# Altium footprint library DK TT.PcbLib: 23 footprints (part 1 of 2)
Each footprint in its own frame and in the unit in brackets; x right, y up, seen from the top. Pads: shape width x height; smd on the part's side, far side on the other; paste and mask are expansions set on the pad; w line width, h text height; cw(c..) or ccw(c..) is an arc to the next point about the centre after c.
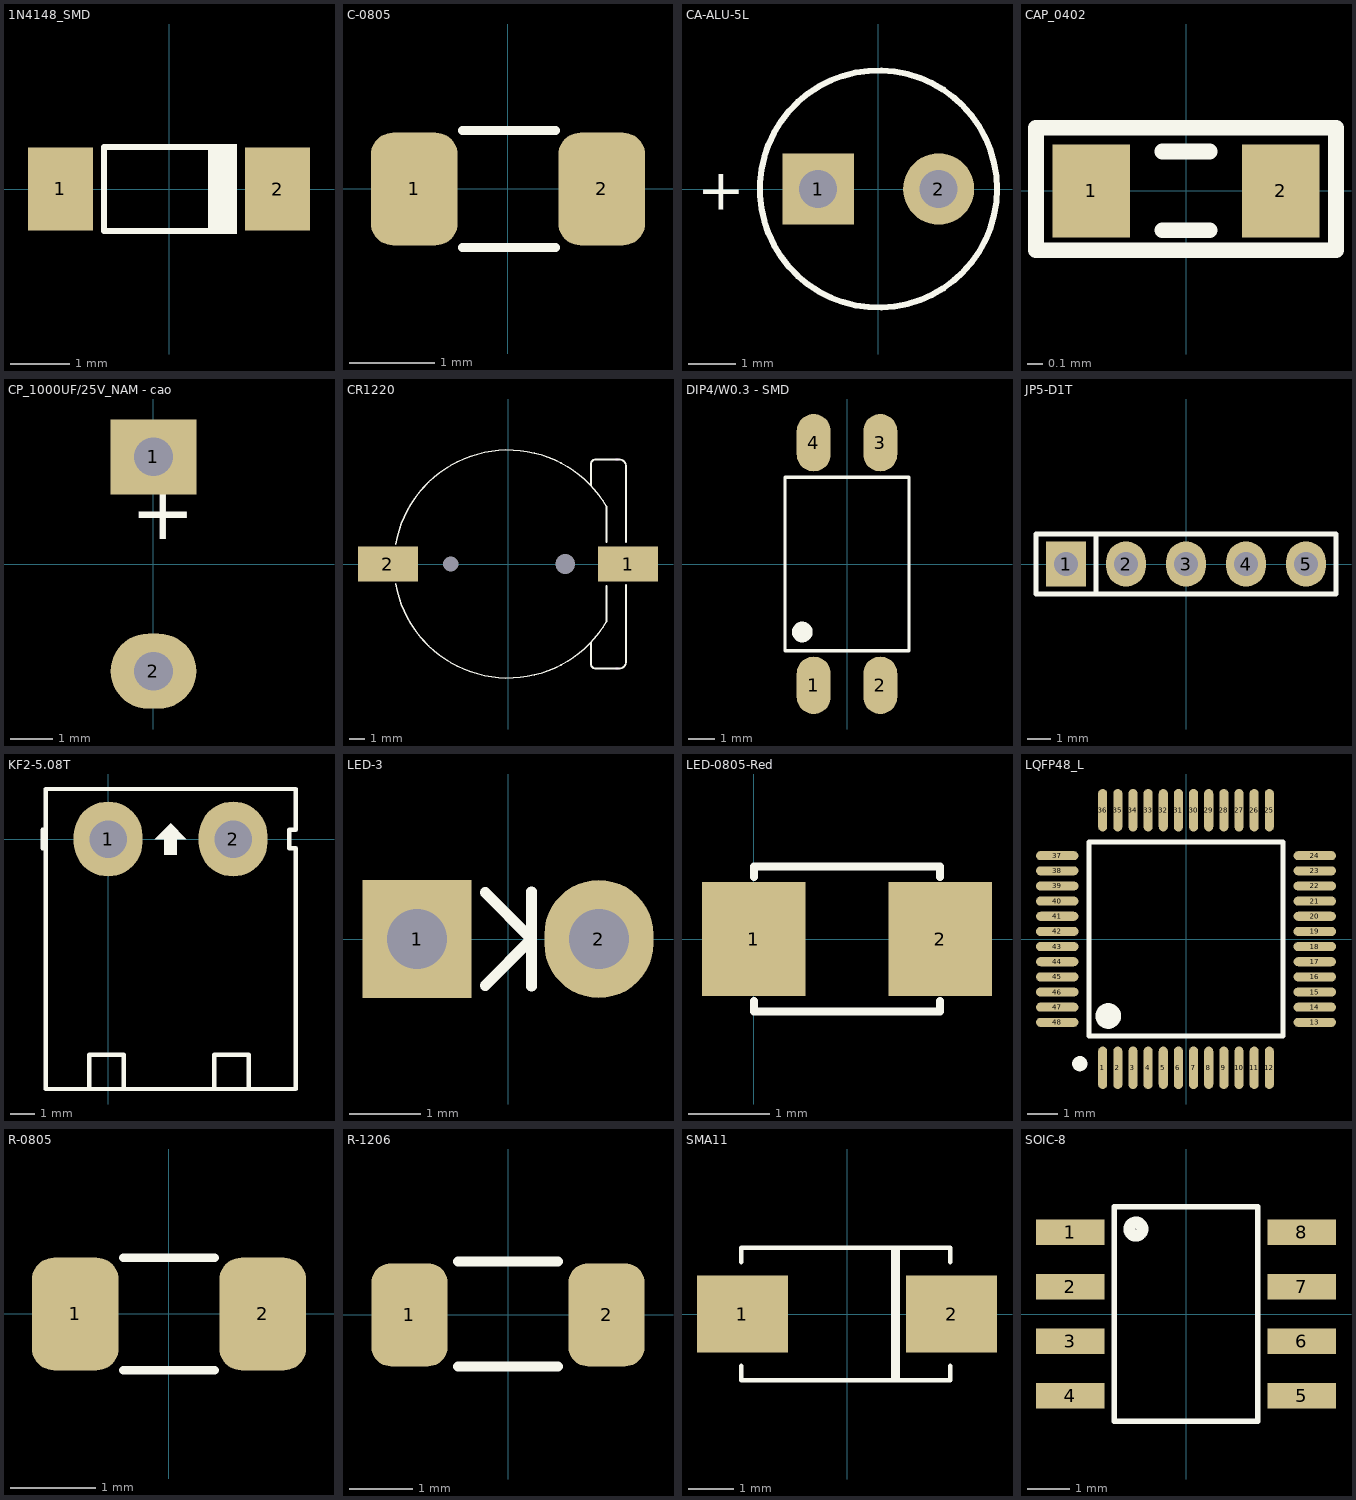
[diagram p0: the footprints below, top view; thin cyan lines are the x and y axes]

## 1N4148_SMD [mm]
height 1.75
pads (2):
  rect 1.1x1.397 smd: 1(-1.83,0) 2(1.83,0)
Top Overlay:
  region: 1.143,0.762 0.66,0.762 0.66,-0.762 1.143,-0.762
  lines w0.102: 0.885,-0.711 -1.092,-0.711 -1.092,0.711 0.885,0.711 0.91,0.686
3D body "User Library-MiniMelf-2.step": height 1.6, standoff 0, extent -1.82,-0.798 1.88,0.798

## C-0805 [mil] "Compoment SMD 80x50mil"
height 50
pads (2):
  rrect50% 40x52 smd: 1(-43.31,0) 2(43.31,0)
Top Overlay:
  lines w4: -21,-27 22,-27 ; -21,27 22,27
3D body "SW3dPS-smt_resistor_packages.STEP": height 24.02, standoff -0.39, extent -39.76,-24.99 39.76,25

## CA-ALU-5L [mm] "Polarized capacitors, Aluminum Electrolytic Capacitors, 2-Leads, Body 5x11x2x0.5"
height 11
pads (2):
  rect 1.5x1.5 hole 0.8: 1(-1.27,0)
  round 1.5 hole 0.8: 2(1.27,0)
Top Overlay:
  circle w0.127: c0,0 r2.5
  text "+" at -3.825,-0.737 h1.5
3D body "5x12.step": height 13.9, standoff -1.2, extent -2.54,-2.54 2.54,2.54

## CAP_0402 [mm]
pads (2):
  rect 0.5x0.6 smd: 1(-0.61,0) 2(0.61,0)
Top Overlay:
  lines w0.1: -0.152,-0.254 0.152,-0.254 ; -0.152,0.254 0.152,0.254 ; -0.965,-0.381 0.965,-0.381 0.965,0.406 -0.965,0.406 -0.965,-0.381
3D body "capacitor-0402C.step": height 0.35, standoff 0, extent -0.5,-0.265 0.5,0.265

## CP_1000UF/25V_NAM - cao [mil]
height 47.24
pads (2):
  rect 80x70 hole 36: 1(0,100)
  oval 80x70 hole 36: 2(0,-100)
Top Overlay:
  text "+" at -21,6 h90
3D body "SW3dPS-Cap electro 10x16x5.0mm RA.STEP": height 457.85, standoff -81.89, extent -11.6,-198.85 696.61,196.85

## CR1220 [mm]
height 1.75
pads (4):
  round 0 hole 1: 0(-3.76,0)
  round 0 hole 1.3: 0(3.76,0)
  rect 3.937x2.3 smd: 1(7.895,0) 2(-7.895,0)
Top Overlay:
  lines w0.102: -7.386,-1.302 ccw(c0,0) 6.495,-3.75 ; -7.386,1.302 cw(c0,0) 6.495,3.75 ; 6.477,-3.81 6.477,-1.422 ; 6.477,1.422 6.477,3.81
  lines w0.127: 5.461,-5.207 5.461,-6.604 ccw(c5.715,-6.604) 5.715,-6.858 5.842,-6.858 7.239,-6.858 7.366,-6.858 ccw(c7.366,-6.477) 7.747,-6.477 7.747,-1.372 ; 5.461,5.207 5.461,6.604 cw(c5.715,6.604) 5.715,6.858 5.842,6.858 7.239,6.858 7.366,6.858 cw(c7.366,6.477) 7.747,6.477 7.747,1.448
Mechanical 1:
  lines w0.127: 7.112,-6.858 7.239,-6.858 ; 7.112,6.858 7.239,6.858
3D body "SW3dPS-cr1220 coin cell.STEP": height 3.5, standoff 1, extent -5.873,-6.008 6.127,5.992
3D body "User Library-Battery Holder for CR1220 SMD.STEP": height 4.23, standoff -0.52, extent -9.273,-7.383 9.527,7.366

## DIP4/W0.3 - SMD [mil] "4 PIN, W 300mil, Pin to pin 100mil"
height 100
pads (4):
  oval 51.18x86 smd paste+0 mask+4: 1(-50,-182)
  oval 51.18x86 smd: 2(50,-182) 3(50,182) 4(-50,182)
Top Overlay:
  circle w15: c-67,-102 r8
  lines w5: -93,-130 -93,130 93,130 93,-130 -93,-130
3D body "User Library-PC817_Gullwing.STEP": height 151.9, standoff 0.27, extent -90.15,-196.84 90.17,196.86

## JP5-D1T [mm] "5 pins, 1 row, straight, gold plating"
height 8.54
pads (5):
  rect 1.676x1.905 hole 1: 1(-5.08,0)
  oval 1.676x1.905 hole 1: 2(-2.54,0) 3(0,0) 4(2.54,0) 5(5.08,0)
Top Overlay:
  lines w0.2: -3.81,-1.27 -3.81,1.27 ; -6.35,-1.27 6.35,-1.27 6.35,1.27 -6.35,1.27 -6.35,-1.27
3D body "61300511121.stp": height 8.54, standoff -3, extent -6.35,-1.27 6.35,1.27

## KF2-5.08T [mil] "Header 2, 2 pin, hight 300mil, Pin to Pin 200, Colour Green"
height 300
pads (2):
  oval 110x120 hole 60: 1(0,0) 2(200,0)
Top Overlay:
  region: 100,25 75,0 90,0 90,-25 110,-25 110,0 125,0
  lines w7: -105,-15 -105,15 ; -30,-400 -30,-345 25,-345 25,-400 ; 170,-400 170,-345 225,-345 225,-400 ; -100,-400 300,-400 300,-15 290,-15 290,15 300,15 300,80 180.5,80 -18.5,80 -100,80 -100,-400
3D body "SW3dPS-5EHDR_2P.STEP": height 333.51, standoff -157.48, extent -96.7,-399.22 297,73.22

## LED-3 [mil] "LED 2 PIN, 3ly Only colour"
height 300
pads (2):
  rect 60x65 hole 33: 1(-50,0)
  oval 60x65 hole 33: 2(50,0)
Top Overlay:
  lines w6: -12.5,-25.5 13,0 -12.5,25.5 ; 13,-26 13,26
3D body "everlight-3MM-LED-RED.step": height 418.76, standoff -76.03, extent -74.8,-74.79 60.08,74.81

## LED-0805-Red [mil]
pads (2):
  rect 50x55 smd: 1(0,0) 2(90,0)
Top Overlay:
  lines w4: 0,-30 0,-35 90,-35 90,-30 ; 0,30 0,35 90,35 90,30
3D body "User Library-led_0805-red.step": height 43.31, standoff 0, extent 5.25,-24.6 84.77,24.62

## LQFP48_L [mm]
height 1.75
pads (48):
  oval 0.3x1.4 smd: 1(-2.75,-4.25) 2(-2.25,-4.25) 3(-1.75,-4.25) 4(-1.25,-4.25) 5(-0.75,-4.25) 6(-0.25,-4.25) 7(0.25,-4.25) 8(0.75,-4.25) 9(1.25,-4.25) 10(1.75,-4.25) 11(2.25,-4.25) 12(2.75,-4.25) 25(2.75,4.25) 26(2.25,4.25) 27(1.75,4.25) 28(1.25,4.25) 29(0.75,4.25) 30(0.25,4.25) 31(-0.25,4.25) 32(-0.75,4.25) 33(-1.25,4.25) 34(-1.75,4.25) 35(-2.25,4.25) 36(-2.75,4.25)
  oval 1.4x0.3 smd: 13(4.25,-2.75) 14(4.25,-2.25) 15(4.25,-1.75) 16(4.25,-1.25) 17(4.25,-0.75) 18(4.25,-0.25) 19(4.25,0.25) 20(4.25,0.75) 21(4.25,1.25) 22(4.25,1.75) 23(4.25,2.25) 24(4.25,2.75) 37(-4.25,2.75) 38(-4.25,2.25) 39(-4.25,1.75) 40(-4.25,1.25) 41(-4.25,0.75) 42(-4.25,0.25) 43(-4.25,-0.25) 44(-4.25,-0.75) 45(-4.25,-1.25) 46(-4.25,-1.75) 47(-4.25,-2.25) 48(-4.25,-2.75)
Top Overlay:
  circle w0.54: c-2.565,-2.54 r0.152
  circle w0.25: c-3.505,-4.115 r0.125
  lines w0.152: -3.2,-3.2 -3.2,3.2 3.2,3.2 3.2,-3.2 -3.2,-3.2
Mechanical 11:
  text ".Designator" at 0.04,0.05 h0.76
3D body "User Library-LQFP48.step": height 1.5, standoff 0, extent -4.5,-4.5 4.5,4.5

## R-0805 [mil] "Compoment SMD 80x50mil"
height 50
pads (2):
  rrect50% 40x52 smd: 1(-43.31,0) 2(43.31,0)
Top Overlay:
  lines w4: -21,-26 21,-26 ; -21,26 21,26
3D body "User Library-RES0805-2.step": height 21.65, standoff 0, extent -39.37,-24.6 39.37,24.61

## R-1206 [mm] "Compoment SMD 120x60mil"
height 1.27
pads (2):
  rrect50% 1.2x1.62 smd: 1(-1.55,0) 2(1.55,0)
Top Overlay:
  lines w0.152: -0.787,-0.813 0.787,-0.813 ; -0.787,0.838 0.787,0.838
3D body "User Library-RES1206-2.step": height 0.55, standoff 0, extent -1.505,-0.775 1.505,0.775

## SMA11 [mm] "SMAJ5.0A/CA,SMAJ24CA..."
height 1.75
pads (2):
  rect 2x1.7 smd: 1(-2.3,0) 2(2.3,0)
Top Overlay:
  lines w0.102: -2.325,-1.143 -2.325,-1.46 2.275,-1.46 2.275,-1.143 ; -2.325,1.143 -2.325,1.46 2.275,1.46 2.275,1.143
  lines w0.203: 1.067,-1.397 1.067,1.397
3D body: height 2.62, standoff 0.2, extent -2.3,-1.46 2.3,1.46
3D body: height 1.31, standoff 0, extent -2.54,-0.889 -1.27,0.889
3D body: height 1.31, standoff 0, extent 1.27,-0.889 2.54,0.889

## SOIC-8 [mm] "SOIC, 8-Leads, Body 5,0x4,0mm (max), Pitch 1,27mm, IPC Medium Density"
height 1.75
pads (8):
  rect 1.6x0.6 smd: 1(-2.7,1.905) 2(-2.7,0.635) 3(-2.7,-0.635) 4(-2.7,-1.905) 5(2.7,-1.905) 6(2.7,-0.635) 7(2.7,0.635) 8(2.7,1.905)
Top Overlay:
  circle w0.279: c-1.168,1.981 r0.152
  lines w0.127: -1.676,-2.5 -1.676,2.5 1.676,2.5 1.676,-2.5 -1.676,-2.5
3D body "User Library-sop-8.STEP": height 1.6, standoff 0, extent -3.021,-2.51 3.021,2.51